# EAGLE library part PIC32MM0XXXGPM064 (library MCUs)
PIC32 MM Core
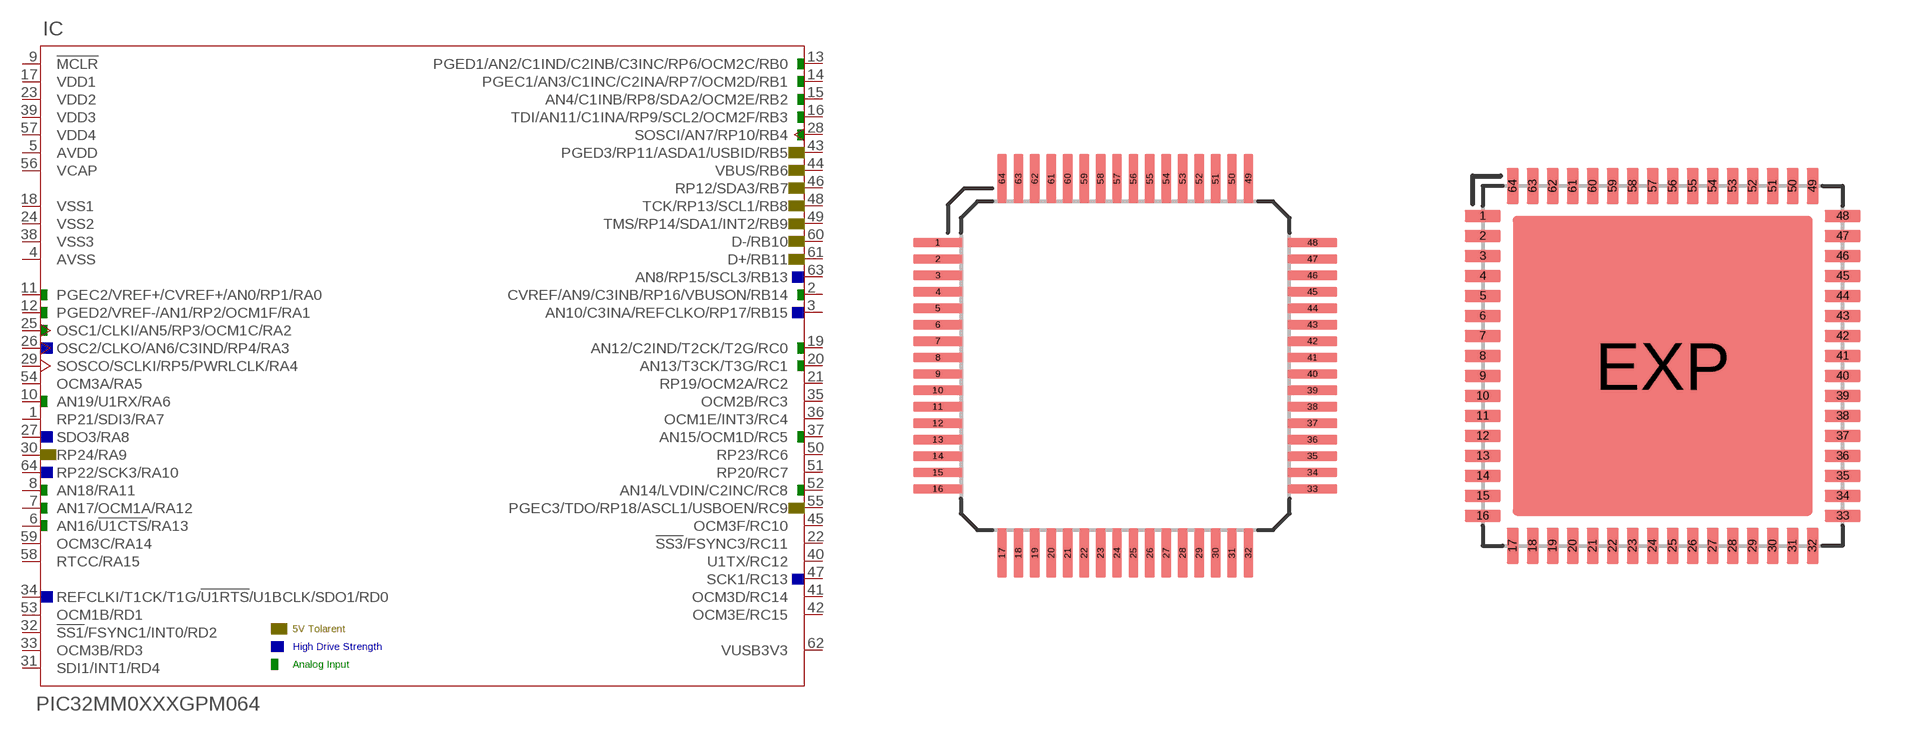
[diagram p9: symbol with the pads of TQFP-64; footprints TQFP-64, QFN-64]

Designator prefix IC

## PIC32MM0XXXGPM064-X/PT  [TQFP-64]
1  RP21/SDI3/RA7
2  CVREF/AN9/C3INB/RP16/VBUSON/RB14
3  AN10/C3INA/REFCLKO/RP17/RB15
4  AVSS  pas
5  AVDD  pas
6  AN16/!U1CTS!/RA13
7  AN17/OCM1A/RA12
8  AN18/RA11
9  !MCLR
10  AN19/U1RX/RA6
11  PGEC2/VREF+/CVREF+/AN0/RP1/RA0
12  PGED2/VREF-/AN1/RP2/OCM1F/RA1
13  PGED1/AN2/C1IND/C2INB/C3INC/RP6/OCM2C/RB0
14  PGEC1/AN3/C1INC/C2INA/RP7/OCM2D/RB1
15  AN4/C1INB/RP8/SDA2/OCM2E/RB2
16  TDI/AN11/C1INA/RP9/SCL2/OCM2F/RB3
17  VDD1  pas
18  VSS1  pas
19  AN12/C2IND/T2CK/T2G/RC0
20  AN13/T3CK/T3G/RC1
21  RP19/OCM2A/RC2
22  !SS3!/FSYNC3/RC11
23  VDD2  pas
24  VSS2  pas
25  OSC1/CLKI/AN5/RP3/OCM1C/RA2
26  OSC2/CLKO/AN6/C3IND/RP4/RA3
27  SDO3/RA8
28  SOSCI/AN7/RP10/RB4
29  SOSCO/SCLKI/RP5/PWRLCLK/RA4
30  RP24/RA9
31  SDI1/INT1/RD4
32  !SS1!/FSYNC1/INT0/RD2
33  OCM3B/RD3
34  REFCLKI/T1CK/T1G/!U1RTS!/U1BCLK/SDO1/RD0
35  OCM2B/RC3
36  OCM1E/INT3/RC4
37  AN15/OCM1D/RC5
38  VSS3  pas
39  VDD3
40  U1TX/RC12
41  OCM3D/RC14
42  OCM3E/RC15
43  PGED3/RP11/ASDA1/USBID/RB5
44  VBUS/RB6
45  OCM3F/RC10
46  RP12/SDA3/RB7
47  SCK1/RC13
48  TCK/RP13/SCL1/RB8
49  TMS/RP14/SDA1/INT2/RB9
50  RP23/RC6
51  RP20/RC7
52  AN14/LVDIN/C2INC/RC8
53  OCM1B/RD1
54  OCM3A/RA5
55  PGEC3/TDO/RP18/ASCL1/USBOEN/RC9
56  VCAP  pas
57  VDD4
58  RTCC/RA15
59  OCM3C/RA14
60  D-/RB10
61  D+/RB11
62  VUSB3V3
63  AN8/RP15/SCL3/RB13
64  RP22/SCK3/RA10

## PIC32MM0XXXGPM064-X/MR  [QFN-64]
1  RP21/SDI3/RA7
2  CVREF/AN9/C3INB/RP16/VBUSON/RB14
3  AN10/C3INA/REFCLKO/RP17/RB15
4  AVSS  pas
5  AVDD  pas
6  AN16/!U1CTS!/RA13
7  AN17/OCM1A/RA12
8  AN18/RA11
9  !MCLR
10  AN19/U1RX/RA6
11  PGEC2/VREF+/CVREF+/AN0/RP1/RA0
12  PGED2/VREF-/AN1/RP2/OCM1F/RA1
13  PGED1/AN2/C1IND/C2INB/C3INC/RP6/OCM2C/RB0
14  PGEC1/AN3/C1INC/C2INA/RP7/OCM2D/RB1
15  AN4/C1INB/RP8/SDA2/OCM2E/RB2
16  TDI/AN11/C1INA/RP9/SCL2/OCM2F/RB3
17  VDD1  pas
18  VSS1  pas
19  AN12/C2IND/T2CK/T2G/RC0
20  AN13/T3CK/T3G/RC1
21  RP19/OCM2A/RC2
22  !SS3!/FSYNC3/RC11
23  VDD2  pas
24  VSS2  pas
25  OSC1/CLKI/AN5/RP3/OCM1C/RA2
26  OSC2/CLKO/AN6/C3IND/RP4/RA3
27  SDO3/RA8
28  SOSCI/AN7/RP10/RB4
29  SOSCO/SCLKI/RP5/PWRLCLK/RA4
30  RP24/RA9
31  SDI1/INT1/RD4
32  !SS1!/FSYNC1/INT0/RD2
33  OCM3B/RD3
34  REFCLKI/T1CK/T1G/!U1RTS!/U1BCLK/SDO1/RD0
35  OCM2B/RC3
36  OCM1E/INT3/RC4
37  AN15/OCM1D/RC5
38  VSS3  pas
39  VDD3
40  U1TX/RC12
41  OCM3D/RC14
42  OCM3E/RC15
43  PGED3/RP11/ASDA1/USBID/RB5
44  VBUS/RB6
45  OCM3F/RC10
46  RP12/SDA3/RB7
47  SCK1/RC13
48  TCK/RP13/SCL1/RB8
49  TMS/RP14/SDA1/INT2/RB9
50  RP23/RC6
51  RP20/RC7
52  AN14/LVDIN/C2INC/RC8
53  OCM1B/RD1
54  OCM3A/RA5
55  PGEC3/TDO/RP18/ASCL1/USBOEN/RC9
56  VCAP  pas
57  VDD4
58  RTCC/RA15
59  OCM3C/RA14
60  D-/RB10
61  D+/RB11
62  VUSB3V3
63  AN8/RP15/SCL3/RB13
64  RP22/SCK3/RA10
EXP  VSS1  pas

## Footprint TQFP-64 (pad centres in mm)
smd 1.5 x 0.3: 1 -5.7,3.75; 2 -5.7,3.25; 3 -5.7,2.75; 4 -5.7,2.25; 5 -5.7,1.75; 6 -5.7,1.25; 7 -5.7,0.75; 8 -5.7,0.25; 9 -5.7,-0.25; 10 -5.7,-0.75; 11 -5.7,-1.25; 12 -5.7,-1.75; 13 -5.7,-2.25; 14 -5.7,-2.75; 15 -5.7,-3.25; 16 -5.7,-3.75; 33 5.7,-3.75; 34 5.7,-3.25; 35 5.7,-2.75; 36 5.7,-2.25; 37 5.7,-1.75; 38 5.7,-1.25; 39 5.7,-0.75; 40 5.7,-0.25; 41 5.7,0.25; 42 5.7,0.75; 43 5.7,1.25; 44 5.7,1.75; 45 5.7,2.25; 46 5.7,2.75; 47 5.7,3.25; 48 5.7,3.75
smd 0.3 x 1.5: 17 -3.75,-5.7; 18 -3.25,-5.7; 19 -2.75,-5.7; 20 -2.25,-5.7; 21 -1.75,-5.7; 22 -1.25,-5.7; 23 -0.75,-5.7; 24 -0.25,-5.7; 25 0.25,-5.7; 26 0.75,-5.7; 27 1.25,-5.7; 28 1.75,-5.7; 29 2.25,-5.7; 30 2.75,-5.7; 31 3.25,-5.7; 32 3.75,-5.7; 49 3.75,5.7; 50 3.25,5.7; 51 2.75,5.7; 52 2.25,5.7; 53 1.75,5.7; 54 1.25,5.7; 55 0.75,5.7; 56 0.25,5.7; 57 -0.25,5.7; 58 -0.75,5.7; 59 -1.25,5.7; 60 -1.75,5.7; 61 -2.25,5.7; 62 -2.75,5.7; 63 -3.25,5.7; 64 -3.75,5.7

## Footprint QFN-64 (pad centres in mm)
smd 0.9 x 0.3: 1 -4.5,3.75; 2 -4.5,3.25; 3 -4.5,2.75; 4 -4.5,2.25; 5 -4.5,1.75; 6 -4.5,1.25; 7 -4.5,0.75; 8 -4.5,0.25; 9 -4.5,-0.25; 10 -4.5,-0.75; 11 -4.5,-1.25; 12 -4.5,-1.75; 13 -4.5,-2.25; 14 -4.5,-2.75; 15 -4.5,-3.25; 16 -4.5,-3.75; 33 4.5,-3.75; 34 4.5,-3.25; 35 4.5,-2.75; 36 4.5,-2.25; 37 4.5,-1.75; 38 4.5,-1.25; 39 4.5,-0.75; 40 4.5,-0.25; 41 4.5,0.25; 42 4.5,0.75; 43 4.5,1.25; 44 4.5,1.75; 45 4.5,2.25; 46 4.5,2.75; 47 4.5,3.25; 48 4.5,3.75
smd 0.3 x 0.9: 17 -3.75,-4.5; 18 -3.25,-4.5; 19 -2.75,-4.5; 20 -2.25,-4.5; 21 -1.75,-4.5; 22 -1.25,-4.5; 23 -0.75,-4.5; 24 -0.25,-4.5; 25 0.25,-4.5; 26 0.75,-4.5; 27 1.25,-4.5; 28 1.75,-4.5; 29 2.25,-4.5; 30 2.75,-4.5; 31 3.25,-4.5; 32 3.75,-4.5; 49 3.75,4.5; 50 3.25,4.5; 51 2.75,4.5; 52 2.25,4.5; 53 1.75,4.5; 54 1.25,4.5; 55 0.75,4.5; 56 0.25,4.5; 57 -0.25,4.5; 58 -0.75,4.5; 59 -1.25,4.5; 60 -1.75,4.5; 61 -2.25,4.5; 62 -2.75,4.5; 63 -3.25,4.5; 64 -3.75,4.5
smd 7.5 x 7.5: EXP 0,0